# Altium schematic symbol library LT1236-5 Voltage Reference.SchLib: 1 symbol
Pins are listed as number, name and electrical type; pins without a type are passive.

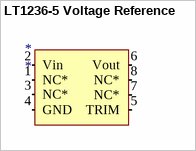
[diagram p0: symbol LT1236-5 Voltage Reference]

## LT1236-5 Voltage Reference
designator *
pins: 1 NC* "DO NOT CONNECT", 2 Vin (in), 3 NC* "DO NOT CONNECT", 4 GND (in), 5 TRIM (out), 6 Vout (power), 7 NC* "DO NOT CONNECT", 8 NC* "DO NOT CONNECT"